# Altium schematic symbol library R82EC2220DQ50J.SchLib: 1 symbol
Pins are listed as number, name and electrical type; pins without a type are passive.

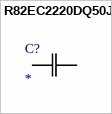
[diagram p0: symbol R82EC2220DQ50J]

## R82EC2220DQ50J
designator C?
No Description Available; Mfr_Name: Kemet / Arcotronics
footprint CAP_R82_2.5X6.5X7.2_ATN
pins: 1, 2